# Altium schematic symbol library Schlib1_MotherBoard.SchLib: 23 symbols
Pins are listed as number, name and electrical type; pins without a type are passive.

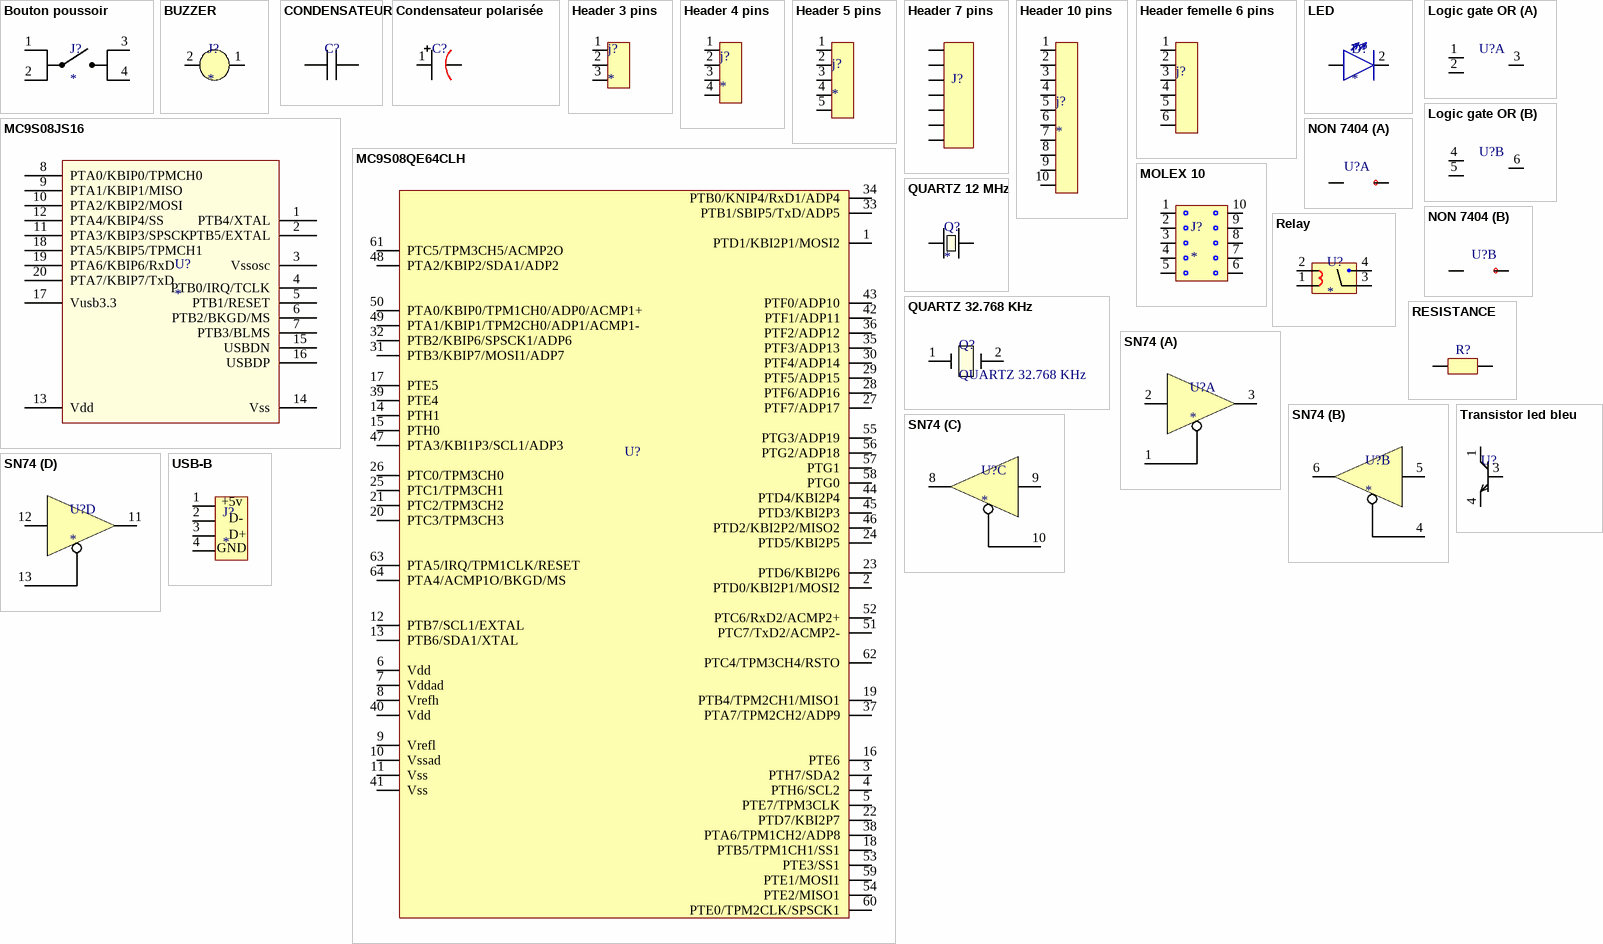
[diagram p0: symbols Bouton poussoir to USB-B]

## Bouton poussoir
designator J?
Bouton Poussoir
footprint Bouton poussoir
pins: 1, 2, 3, 4

## BUZZER
designator J?
BUZZER 3V 2200 Hz
footprint BUZZER (BUZZER 3V 2200Hz)
pins: 1, 2

## CONDENSATEUR
designator C?  (value not drawn)
CONDENSATEUR
footprint Condensateur 1206
footprint CONDENSATEUR 0805 (CONDENSATEUR 0805 18pF 47 OHMS)
pins: 1, 2

## Condensateur polarisée
designator C?  (value not drawn)
Condensateur polarisée
footprint CONDENSATEUR 0805 (CONDENSATEUR 0805 18pF 47 OHMS)
pins: 1, 2

## Header 3 pins
designator j?
3 pins
footprint Header 3 pins (3 pins)
pins: 1, 2, 3

## Header 4 pins
designator j?
4 pins
footprint Header 4 pins (4 pins)
pins: 1, 2, 3, 4

## Header 5 pins
designator j?
5 pins
footprint Header 5 pins (5 pins)
pins: 1, 2, 3, 4, 5

## Header 7 pins
designator J?  (value not drawn)
7 pins
footprint Header 7pins (7 pins)
pins: 1, 2, 3, 4, 5, 6, 7

## Header 10 pins
designator j?
10 pins
footprint Header 10 pins (10 pins)
pins: 1, 2, 3, 4, 5, 6, 7, 8, 9, 10

## Header femelle 6 pins
designator j?  (value not drawn)
6 pins
footprint HEADER femelle 2.54 mm
pins: 1, 2, 3, 4, 5, 6

## LED
designator D?
DIODE ELECTROLUMINESCENTE
footprint LED (Diode électro-luminescente 1305 SML)
pins: 1, 2

## Logic gate OR
designator U?  (value not drawn)
OR 7432
footprint LogicGateNAND (7400)
part A pins: 1, 2, 3, 7 hidden to GND, 14 hidden to 5V
part B pins: 4, 5, 6

## MC9S08JS16
designator U?
MC9S08JS16
footprint MC9S08JS16CWJ (Micro-controleur 8 bits)
pins: 1 PTB4/XTAL, 2 PTB5/EXTAL, 3 Vssosc, 4 PTB0/IRQ/TCLK, 5 PTB1/RESET, 6 PTB2/BKGD/MS, 7 PTB3/BLMS, 8 PTA0/KBIP0/TPMCH0, 9 PTA1/KBIP1/MISO, 10 PTA2/KBIP2/MOSI, 11 PTA3/KBIP3/SPSCK, 12 PTA4/KBIP4/SS, 13 Vdd, 14 Vss, 15 USBDN, 16 USBDP, 17 Vusb3.3, 18 PTA5/KBIP5/TPMCH1, 19 PTA6/KBIP6/RxD, 20 PTA7/KBIP7/TxD

## MC9S08QE64CLH
designator U?  (value not drawn)
MC9S08QE64CLH
footprint MC9S08QE64 (Micro-controlleur 8 bits 64 broches)
pins: 1 PTD1/KBI2P1/MOSI2, 2 PTD0/KBI2P1/MOSI2, 3 PTH7/SDA2, 4 PTH6/SCL2, 5 PTE7/TPM3CLK, 6 Vdd, 7 Vddad, 8 Vrefh, 9 Vrefl, 10 Vssad, 11 Vss, 12 PTB7/SCL1/EXTAL, 13 PTB6/SDA1/XTAL, 14 PTH1, 15 PTH0, 16 PTE6, 17 PTE5, 18 PTB5/TPM1CH1/SS1, 19 PTB4/TPM2CH1/MISO1, 20 PTC3/TPM3CH3, 21 PTC2/TPM3CH2, 22 PTD7/KBI2P7, 23 PTD6/KBI2P6, 24 PTD5/KBI2P5, 25 PTC1/TPM3CH1, 26 PTC0/TPM3CH0, 27 PTF7/ADP17, 28 PTF6/ADP16, 29 PTF5/ADP15, 30 PTF4/ADP14, 31 PTB3/KBIP7/MOSI1/ADP7, 32 PTB2/KBIP6/SPSCK1/ADP6, 33 PTB1/SBIP5/TxD/ADP5, 34 PTB0/KNIP4/RxD1/ADP4, 35 PTF3/ADP13, 36 PTF2/ADP12, 37 PTA7/TPM2CH2/ADP9, 38 PTA6/TPM1CH2/ADP8, 39 PTE4, 40 Vdd, 41 Vss, 42 PTF1/ADP11, 43 PTF0/ADP10, 44 PTD4/KBI2P4, 45 PTD3/KBI2P3, 46 PTD2/KBI2P2/MISO2, 47 PTA3/KBI1P3/SCL1/ADP3, 48 PTA2/KBIP2/SDA1/ADP2, 49 PTA1/KBIP1/TPM2CH0/ADP1/ACMP1-, 50 PTA0/KBIP0/TPM1CH0/ADP0/ACMP1+, 51 PTC7/TxD2/ACMP2-, 52 PTC6/RxD2/ACMP2+, 53 PTE3/SS1, 54 PTE2/MISO1, 55 PTG3/ADP19, 56 PTG2/ADP18, 57 PTG1, 58 PTG0, 59 PTE1/MOSI1, 60 PTE0/TPM2CLK/SPSCK1, 61 PTC5/TPM3CH5/ACMP2O, 62 PTC4/TPM3CH4/RSTO, 63 PTA5/IRQ/TPM1CLK/RESET, 64 PTA4/ACMP1O/BKGD/MS

## MOLEX 10
designator J?
MOLEX Série Micro-Fit 3.0 43045
footprint MOLEX (MOLEX Série Micro-Fit 3.0 43045)
pins: 1, 2, 3, 4, 5, 6, 7, 8, 9, 10

## NON 7404
designator U?  (value not drawn)
NON 7404
footprint LogicGateNAND (7400)
part A pins: 1, 2, 7 hidden to GND, 14 hidden to Vcc
part B pins: 3, 4

## QUARTZ 12 MHz
designator Q?
QUARTZ 12 MHz
footprint Quartz 12.00 MHz (Quartz 12.000 MHz)
pins: 1, 2

## QUARTZ 32.768 KHz
designator Q?
footprint quartz (Quartz 32.769 KHz ABS 10)
pins: 1, 2

## Relay
designator U?
Relay OJE-SS-103HM,000
footprint Relay (Relay OJE-SS-103HM,000)
pins: 1, 2, 3, 4

## RESISTANCE
designator R?  (value not drawn)
RESISTANCE
footprint CONDENSATEUR 0805 (CONDENSATEUR 0805 18pF 47 OHMS)
footprint Condensateur 1206
pins: 1, 2

## SN74
designator U?
footprint SN74LV125A
part A pins: 1, 2, 3
part B pins: 4, 5, 6
part C pins: 8, 9, 10
part D pins: 7 hidden to GND, 11, 12, 13, 14 hidden to Vcc

## Transistor led bleu
designator U?  (value not drawn)
Transistor NPN 5181659
footprint transistor NPN (Transistor NPN SOT457)
pins: 1, 3, 4

## USB-B
designator J?
footprint USB (USB-B-S-RA)
pins: 1, 2, 3, 4
text: +5v; D-; D+; GND